# EAGLE library part TPS562210A (library misc)
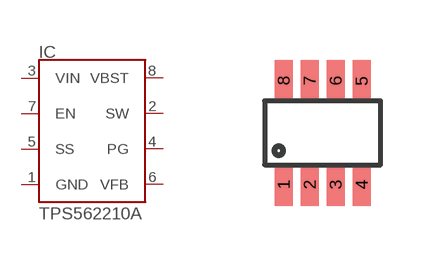
[diagram p6: symbol with the pads of SOT23-8; footprint SOT23-8]

Designator prefix IC

## TPS562210A (OC_DIGIKEY: TPS562210DDFT)  [SOT23-8]
1  GND  pwr
2  SW
3  VIN  pwr
4  PG
5  SS
6  VFB
7  EN
8  VBST  pwr

## Footprint SOT23-8 (pad centres in mm)
Small Outline Transistor
smd 0.45 x 1.05: 1 -0.975,-1.3; 2 -0.325,-1.3; 3 0.325,-1.3; 4 0.975,-1.3; 5 0.975,1.3; 6 0.325,1.3; 7 -0.325,1.3; 8 -0.975,1.3